# Altium footprint library STM32F429_F746.PcbLib: 51 footprints (part 4 of 4)
Each footprint in its own frame and in the unit in brackets; x right, y up, seen from the top. Pads: shape width x height; smd on the part's side, far side on the other; paste and mask are expansions set on the pad; w line width, h text height; cw(c..) or ccw(c..) is an arc to the next point about the centre after c.
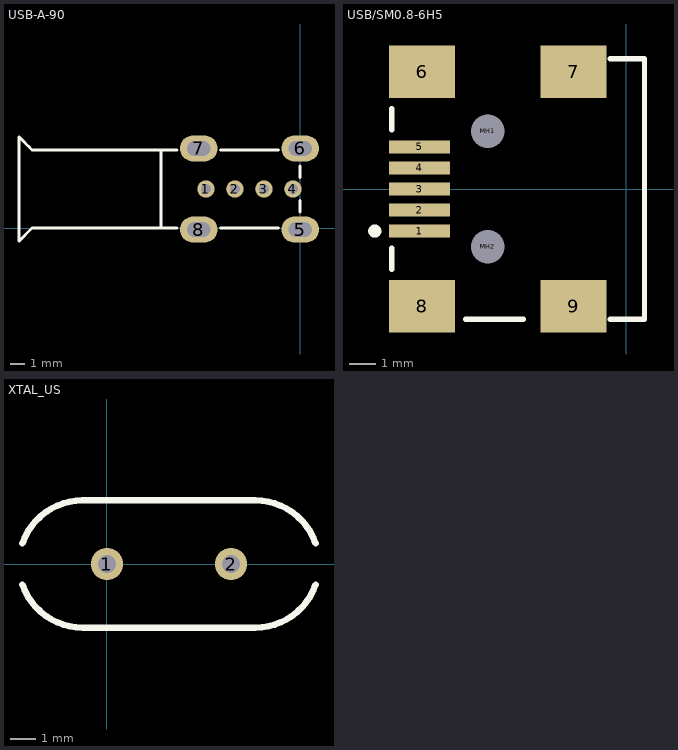
[diagram p3: the footprints below, top view; thin cyan lines are the x and y axes]

## USB-A-90 [mm]
pads (8):
  round 1.2 hole 0.7: 1(-6.5,2.7) 2(-4.5,2.7) 3(-2.5,2.7) 4(-0.5,2.7)
  oval 2.6x1.8 hole 1 slot 1.6 at 0 deg: 5(0,-0.1) 6(0,5.5) 7(-7,5.5) 8(-7,-0.1)
Top Overlay:
  lines w0.203: -18.75,5.65 -18.5,5.4 ; -17.2,0 -8.5,0 ; -16.8,0 -18.5,0 -19.4,-0.9 -19.4,6.3 -18.5,5.4 ; -15.6,5.4 -18.5,5.4 ; -9.6,0 -9.6,5.4 ; -8.5,5.4 -18.5,5.4 ; -5.5,0 -1.5,0 ; -5.5,5.4 -1.5,5.4 ; 0,1.1 0,1.9 ; 0,3.5 0,4.3

## USB/SM0.8-6H5 [mm]
pads (11):
  rect 2.3x0.5 smd: 1(-7.85,-1.6) 2(-7.85,-0.8) 3(-7.85,0) 4(-7.85,0.8) 5(-7.85,1.6)
  rect 2.5x2 smd: 6(-7.75,4.45) 7(-1.996,4.45) 8(-7.75,-4.45) 9(-1.996,-4.45)
  round 0.6 hole 1.27 unplated: MH1(-5.25,2.2) MH2(-5.25,-2.2)
Top Overlay:
  circle w0.25: c-9.55,-1.6 r0.125
  lines w0.2: -8.9,-3.05 -8.9,-2.25 ; -8.9,2.25 -8.9,3.05 ; -6.1,-4.95 -3.9,-4.95 ; -0.6,-4.95 0.7,-4.95 0.7,4.95 -0.6,4.95

## XTAL_US [mil]
pads (2):
  round 50 hole 28: 1(0,0) 2(192.13,0)
Top Overlay:
  lines w10: -130.92,-31.85 ccw(c-37.79,0) -37.79,-98.42 ; -130.92,31.85 cw(c-37.79,0) -37.79,98.43 ; -38,98.42 229.92,98.43 cw(c229.92,0) 323.05,31.85 ; -37.8,-98.43 229.92,-98.42 ccw(c229.92,0) 323.05,-31.85